# EAGLE library part TXB0101DBVR (library SpectroLib)
1-BIT BIDIRECTIONAL VOLTAGE-LEVEL TRANSLATOR,SOT23-6
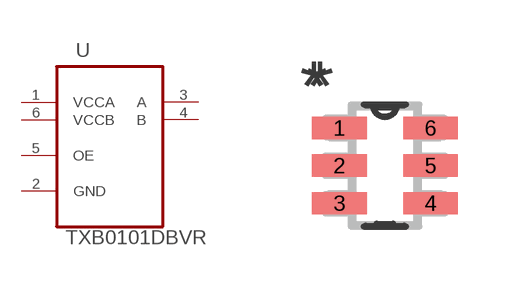
[diagram p4: symbol with the pads of SOT95P280X145-6N; footprint SOT95P280X145-6N]

Designator prefix U

## TXB0101DBVR (MPN: TXB0101DBVR; OC_FARNELL: 2120474; OC_NEWARK: 94T5113; PACKAGE: SOT23-6; SUPPLIER: TEXAS INSTRUMENTS)  [SOT95P280X145-6N]
1  VCCA  pwr
2  GND  pas
3  A
4  B
5  OE  in
6  VCCB  pwr

## Footprint SOT95P280X145-6N (pad centres in mm)
smd 1.372 x 0.559: 1 -1.143,0.94; 2 -1.143,0; 3 -1.143,-0.94; 4 1.143,-0.94; 5 1.143,0; 6 1.143,0.94